# EAGLE library part OPA2134 (library myparts)
Operational Amplifier
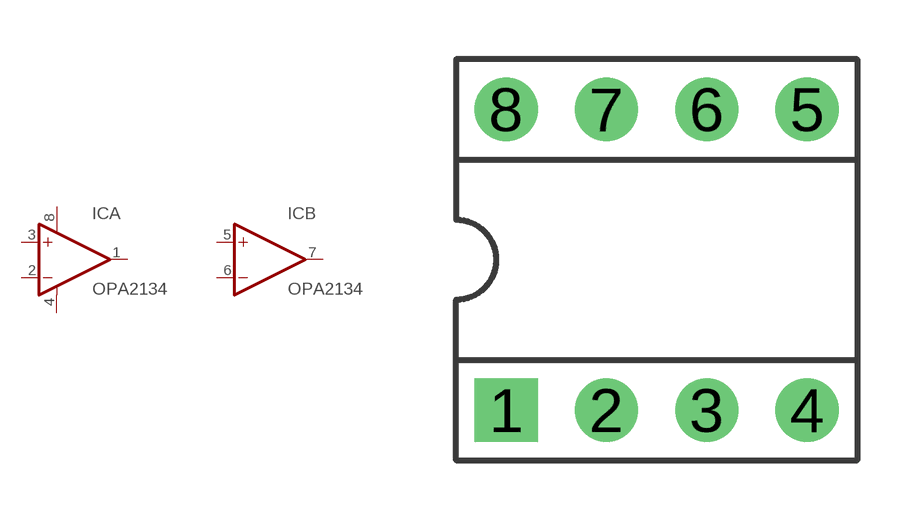
[diagram p1: symbol with the pads of DIL08; footprint DIL08]

Designator prefix IC; gates A=OP-AMP+- B=OP-AMP

## OPA2134P (MF: TEXAS INSTRUMENTS; MPN: OPA2134PA; OC_FARNELL: 1097574; OC_NEWARK: 74K3897)  [DIL08]
1  A:OUT  out
2  A:-IN  in
3  A:+IN  in
4  A:V-  pwr
5  B:+IN  in
6  B:-IN  in
7  B:OUT  out
8  A:V+  pwr

## Footprint DIL08 (pad centres in mm)
Dual In Line
drill 0.813 pad 1.6 square: 1 -3.81,-3.81
drill 0.813 pad 1.6: 2 -1.27,-3.81; 3 1.27,-3.81; 4 3.81,-3.81; 5 3.81,3.81; 6 1.27,3.81; 7 -1.27,3.81; 8 -3.81,3.81